# EAGLE library part WE-RJ45_74980111211 (library WE-RJ45_LAN)
WE-RJ45 LAN Transformer Characteristics RJ45 Connector with integrated transformer / common mode choke Power over Ethernet up to 50 Watt and speeds up to 10 Gbit/s Available in SMD, THT and THT with USB Compliant with standards: IEEE 802.3u, IEEE 802.3ab, IEEE 802.3af, IEEE 802.3at, IEEE 802.3an and upcoming IEE 802.3bt Applications Suitable for industrial temperatures from –40 °C up to +85 °C Compatible to Industrial Ethernet systems like EtherCAT or Profinet Compliant with most IC’s for Ethernet applications such as Microchip, Texas Instruments, Broadcom, Linear Technology Hubs, Routers, Switches, IP cameras, IoT applications Details see: www.we-online.com/components/products/WE-LAN-RJ45 Updated by Ella Wu 2026-07-01 2026 (C) Würth Elektronik
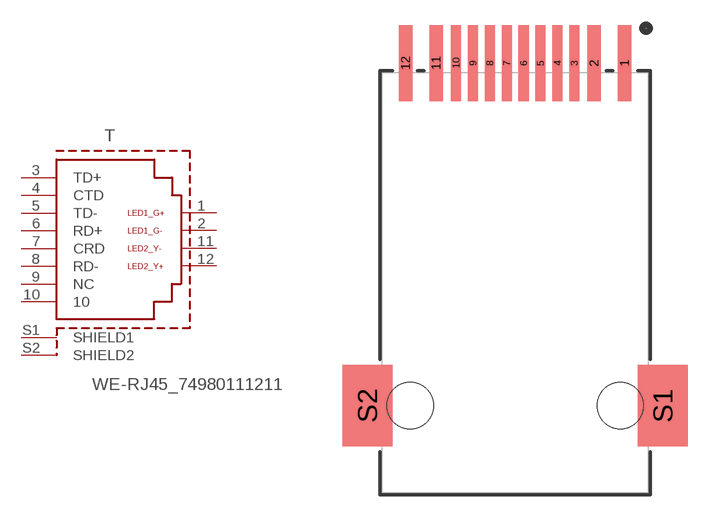
[diagram p76: symbol with the pads of 74980111211; footprint 74980111211]

Designator prefix T

## WE-RJ45_74980111211 (DATA-RATE: 10/100BASE-T; DATASHEET: https://www.we-online.com/redexpert/spec/74980111211?ae; IMPROVED-CMRR: No; LED: yellow-green; MOUNT: SMT; OPERATING-TEMPERATURE: -40 °C up to +85 °C; PART-NUMBER: 74980111211; PHY-CHIP-MODE: current & voltage; POE: non-PoE; PORTS: 1; SHIELD-TABS: Yes; TAB: Up; USB: No; VALUE: 74980111211)  [74980111211]
1  LED1_G+  pas
2  LED1_G-  pas
3  TD+  pas
4  CTD  pas
5  TD-  pas
6  RD+  pas
7  CRD  pas
8  RD-  pas
9  NC  pas
10  10  pas
11  LED2_Y-  pas
12  LED2_Y+  pas
S1  SHIELD1  pas
S2  SHIELD2  pas

## Footprint 74980111211 (pad centres in mm)
WE-RJ45 LAN Transformer 10/100BASE-T, Ports:1, Tab:Up
smd 0.81 x 4.6: 1 6.61,20.69; 2 4.77,20.69; 11 -4.77,20.69; 12 -6.61,20.69
smd 0.61 x 4.6: 3 3.57,20.69; 4 2.55,20.69; 5 1.53,20.69; 6 0.51,20.69; 7 -0.51,20.69; 8 -1.53,20.69; 9 -2.55,20.69; 10 -3.57,20.69
smd 3 x 4.9: S1 8.92,0; S2 -8.92,0
hole 2.8 at 6.35,0
hole 2.8 at -6.35,0